# EAGLE library part 61001221121 (library Wuerth_Elektronik_eiCan_Pin_&_Socked_Headers_v1.3)
WR-PHD 2.54mm Dual SMT Pin Header, 12 Pins
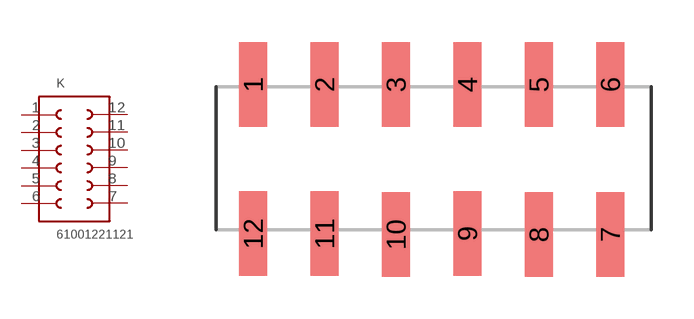
[diagram p93: symbol with the pads of 61001221121; footprint 61001221121]

Designator prefix K

## 61001221121  [61001221121]
1  1  pas
2  2  pas
3  3  pas
4  4  pas
5  5  pas
6  6  pas
7  7  pas
8  8  pas
9  9  pas
10  10  pas
11  11  pas
12  12  pas

## Footprint 61001221121 (pad centres in mm)
WR-PHD 2.54mm Dual SMT Pin Header, 12 Pins
smd 1 x 3: 1 -6.35,2.54; 2 -3.81,2.54; 3 -1.27,2.54; 4 1.27,2.54; 5 3.81,2.54; 6 6.35,2.54; 7 6.35,-2.79; 8 3.81,-2.79; 9 1.27,-2.76; 10 -1.27,-2.79; 11 -3.81,-2.76; 12 -6.35,-2.76